# Altium schematic symbol library REF3033.SchLib: 1 symbol
Pins are listed as number, name and electrical type; pins without a type are passive.

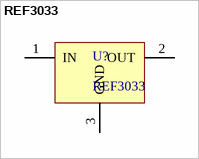
[diagram p0: symbol REF3033]

## REF3033
designator U?
3.3 V, 50 ppm / degC, 50 uA Series (Bandgap) Voltage Reference, -40 to 125 degC, 3-pin SOT-23 (DBZ), Green (RoHS & no Sb/Br)
footprint SOT23-3_N
footprint SOT23-3_M
footprint SOT23-3_L
pins: 1 IN (power), 2 OUT (power), 3 GND (power)